# Altium schematic symbol library JLC_PCB_2.SchLib: 147 symbols
Pins are listed as number, name and electrical type; pins without a type are passive.

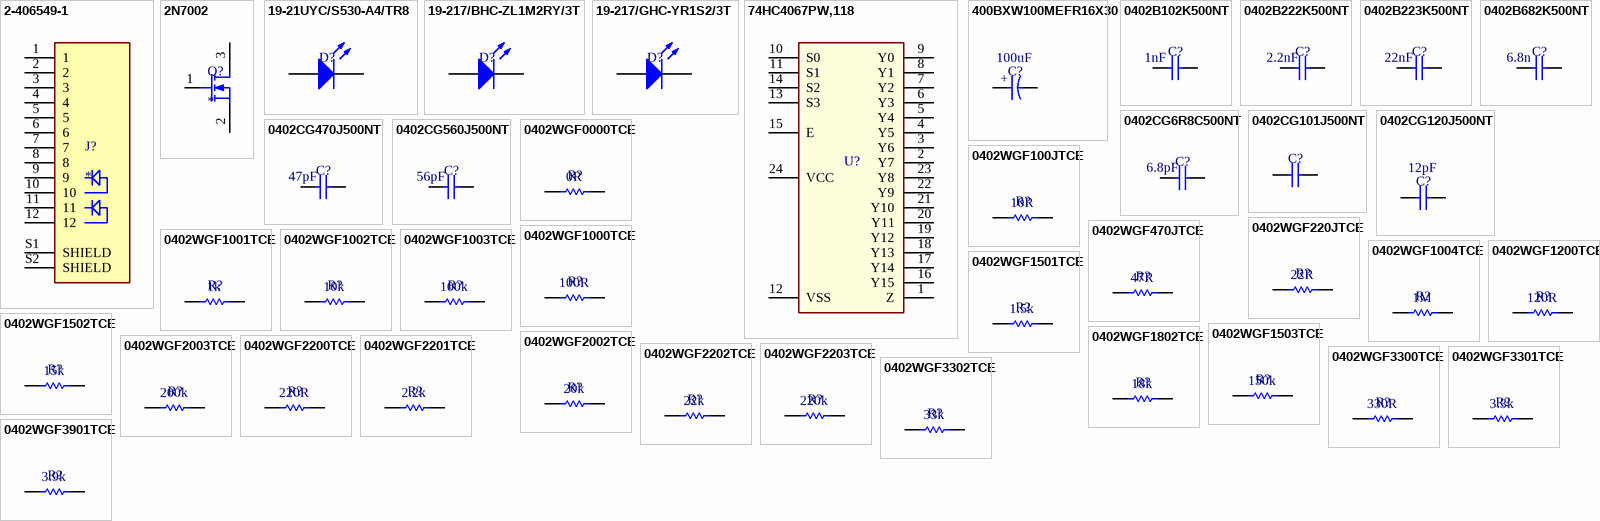
[diagram p0: symbols 2-406549-1 to 0402WGF3901TCE]

## 2-406549-1
designator J?
J - JACK - ETHERNET - Right - THT; LCSC Part #: C125068; JLC Availability: Extended
footprint TE_2-406549-1
pins: 1, 2, 3, 4, 5, 6, 7, 8, 9, 10, 11, 12, S1 SHIELD, S2 SHIELD

## 2N7002
designator Q?
Q - TRANSISTOR - MOSFET (N) - 60V - 200mW; JLC Availability: Basic; LCSC Part #: C8545
footprint TO-236AB (SOT-23-3 Leads; Body 3.1 x 3 mm, inc. leads (LxW max))
pins: 1 G, 2 S, 3 D

## 19-21UYC/S530-A4/TR8
designator D?  (value not drawn)
D - LED - 0603 - Yellow (Sodium); LCSC Part #: C409441; JLC Availability: Extended
footprint D_0603 (Chip Diode; Body 1.6 x 0.8 mm (LxW typ))
pins: 1 K, 2 A

## 19-217/BHC-ZL1M2RY/3T
designator D?  (value not drawn)
D - LED - 0603 - Blue; LCSC Part #: C72041; JLC Availability: Basic
footprint D_0603 (Chip Diode; Body 1.6 x 0.8 mm (LxW typ))
pins: 1 K, 2 A

## 19-217/GHC-YR1S2/3T
designator D?  (value not drawn)
D - LED - 0603 - Green; LCSC Part #: C72043; JLC Availability: Basic
footprint D_0603 (Chip Diode; Body 1.6 x 0.8 mm (LxW typ))
pins: 1 K, 2 A

## 74HC4067PW,118
designator U?
U - IC -16 Port Analog MUX; ComponentLink1Description: Manufacturer URL; ComponentLink1URL: http://www.st.com/web/en/home.html; ComponentLink2Description: Datasheet; ComponentLink2URL: http://www.st.com/st-web-ui/static/active/en/resource/technical/document/datasheet/CD00161566.pdf; ComponentLink3Description: Package Specification; ComponentLink3URL: http://www.st.com/st-web-ui/static/active/en/resource/technical/document/datasheet/DM00058181.pdf; JLC Availability: Extended; LCSC Part #: C179326
footprint TSSOP-24-P0.65MM-W4.4MM (Shrink Small Outline; 24 Leads)
pins: 1 Z, 2 Y7, 3 Y6, 4 Y5, 5 Y4, 6 Y3, 7 Y2, 8 Y1, 9 Y0, 10 S0 "VSS_3", 11 S1, 12 VSS (power), 13 S3, 14 S2, 15 E, 16 Y15, 17 Y14, 18 Y13, 19 Y12, 20 Y11, 21 Y10, 22 Y9, 23 Y8, 24 VCC (power)

## 400BXW100MEFR16X30
designator C?  value 100uF  (hidden comment: *)
C - CAPACITOR - ELECTROLYTIC - 100uF - 400V; WVDC: 400; ESR: 40mOhm; JLC Availability: Extended; LCSC Part #: C441621
footprint C_CAN_TH_7.5MM_LEADS
pins: 1, 2
text: +

## 0402B102K500NT
designator C?  value 1nF  (hidden comment: *)
C - CAPACITOR - MLCC - 1nF - 50V - 0402; WVDC: 50; LCSC Part #: C1523; JLC Availability: Basic
footprint C_0402 (Chip Capacitor; Body 1.0 x 0.5 mm (LxW typ))
pins: 1, 2

## 0402B222K500NT
designator C?  value 2.2nF  (hidden comment: *)
C - CAPACITOR - MLCC - 2.2nF - 50V - 0402; WVDC: 50; LCSC Part #: C1531; JLC Availability: Basic
footprint C_0402 (Chip Capacitor; Body 1.0 x 0.5 mm (LxW typ))
pins: 1, 2

## 0402B223K500NT
designator C?  value 22nF  (hidden comment: *)
C - CAPACITOR - MLCC - 22nF - 50V - 0402; WVDC: 50; LCSC Part #: C1532; JLC Availability: Basic
footprint C_0402 (Chip Capacitor; Body 1.0 x 0.5 mm (LxW typ))
pins: 1, 2

## 0402B682K500NT
designator C?  value 6.8n  (hidden comment: *)
C - CAPACITOR - MLCC - 6.8nF - 50V - 0402; WVDC: 50; LCSC Part #: C1542; JLC Availability: Basic
footprint C_0402 (Chip Capacitor; Body 1.0 x 0.5 mm (LxW typ))
pins: 1, 2

## 0402CG6R8C500NT
designator C?  value 6.8pF  (hidden comment: *)
C - CAPACITOR - MLCC - 6.8pF - 50V - 0402; WVDC: 50; LCSC Part #: C1576; JLC Availability: Basic
footprint C_0402 (Chip Capacitor; Body 1.0 x 0.5 mm (LxW typ))
pins: 1, 2

## 0402CG101J500NT
designator C?  (value not drawn)
C - CAPACITOR - MLCC - 100pF - 50V - 0402; LCSC Part #: C1546; JLC Availability: Extended
footprint C_0402 (Chip Capacitor; Body 1.0 x 0.5 mm (LxW typ))
pins: 1, 2

## 0402CG120J500NT
designator C?  value 12pF  (hidden comment: *)
C - CAPACITOR - MLCC - 12pF - 50V - 0402; WVDC: 50; LCSC Part #: C1547; JLC Availability: Basic
footprint C_0402 (Chip Capacitor; Body 1.0 x 0.5 mm (LxW typ))
pins: 1, 2

## 0402CG470J500NT
designator C?  value 47pF  (hidden comment: *)
C - CAPACITOR - MLCC - 47pF - 50V - 0402; WVDC: 50; LCSC Part #: C1567; JLC Availability: Basic
footprint C_0402 (Chip Capacitor; Body 1.0 x 0.5 mm (LxW typ))
pins: 1, 2

## 0402CG560J500NT
designator C?  value 56pF  (hidden comment: *)
C - CAPACITOR - MLCC - 56pF - 50V -  0402; WVDC: 50; LCSC Part #: C1572; JLC Availability: Basic
footprint C_0402 (Chip Capacitor; Body 1.0 x 0.5 mm (LxW typ))
pins: 1, 2

## 0402WGF0000TCE
designator R?  value 0R  (hidden comment: *)
R - RESISTOR - SMD - 0R - 1% - 0402; LCSC Part #: C17168; JLC Availability: Basic
footprint R_0402 (Body 1.0 x 0.5 mm (LxW typ))
pins: 1, 2

## 0402WGF100JTCE
designator R?  value 10R  (hidden comment: *)
R - RESISTOR - SMD - 10R - 1% - 0402; LCSC Part #: C25077; JLC Availability: Basic
footprint R_0402 (Body 1.0 x 0.5 mm (LxW typ))
pins: 1, 2

## 0402WGF220JTCE
designator R?  value 22R  (hidden comment: *)
R - RESISTOR - SMD - 22R - 1% - 0402; LCSC Part #: C25092; JLC Availability: Basic
footprint R_0402 (Body 1.0 x 0.5 mm (LxW typ))
pins: 1, 2

## 0402WGF470JTCE
designator R?  value 47R  (hidden comment: *)
R - RESISTOR - SMD - 47R - 1% - 0402; LCSC Part #: C25118; JLC Availability: Basic
footprint R_0402 (Body 1.0 x 0.5 mm (LxW typ))
pins: 1, 2

## 0402WGF1000TCE
designator R?  value 100R  (hidden comment: *)
R - RESISTOR - SMD - 100R - 1% - 0402; LCSC Part #: C25076; JLC Availability: Basic
footprint R_0402 (Body 1.0 x 0.5 mm (LxW typ))
pins: 1, 2

## 0402WGF1001TCE
designator R?  value 1k  (hidden comment: *)
R - RESISTOR - SMD - 1k - 1% - 0402; LCSC Part #: C11702; JLC Availability: Basic
footprint R_0402 (Body 1.0 x 0.5 mm (LxW typ))
pins: 1, 2

## 0402WGF1002TCE
designator R?  value 10k  (hidden comment: *)
R - RESISTOR - SMD - 10k - 1% - 0402; LCSC Part #: C25744; JLC Availability: Basic
footprint R_0402 (Body 1.0 x 0.5 mm (LxW typ))
pins: 1, 2

## 0402WGF1003TCE
designator R?  value 100k  (hidden comment: *)
R - RESISTOR - SMD - 100k - 1% -  0402; LCSC Part #: C25741; JLC Availability: Basic
footprint R_0402 (Body 1.0 x 0.5 mm (LxW typ))
pins: 1, 2

## 0402WGF1004TCE
designator R?  value 1M  (hidden comment: *)
R - RESISTOR - SMD - 1M - 1% - 0402; LCSC Part #: C26083; JLC Availability: Basic
footprint R_0402 (Body 1.0 x 0.5 mm (LxW typ))
pins: 1, 2

## 0402WGF1200TCE
designator R?  value 120R  (hidden comment: *)
R - RESISTOR - SMD - 120R - 1% - 0402; LCSC Part #: C25079; JLC Availability: Basic
footprint R_0402 (Body 1.0 x 0.5 mm (LxW typ))
pins: 1, 2

## 0402WGF1501TCE
designator R?  value 1.5k  (hidden comment: *)
R - RESISTOR - SMD - 1.5k - 1% - 0402; LCSC Part #: C25867; JLC Availability: Basic
footprint R_0402 (Body 1.0 x 0.5 mm (LxW typ))
pins: 1, 2

## 0402WGF1502TCE
designator R?  value 15k  (hidden comment: *)
R - RESISTOR - SMD - 15k - 1% - 0402; LCSC Part #: C25756; JLC Availability: Basic
footprint R_0402 (Body 1.0 x 0.5 mm (LxW typ))
pins: 1, 2

## 0402WGF1503TCE
designator R?  value 150k  (hidden comment: *)
R - RESISTOR - SMD - 150k - 1% - 0402; LCSC Part #: C25755; JLC Availability: Basic
footprint R_0402 (Body 1.0 x 0.5 mm (LxW typ))
pins: 1, 2

## 0402WGF1802TCE
designator R?  value 18k  (hidden comment: *)
R - RESISTOR - SMD - 18k - 1% - 0402; LCSC Part #: C25762; JLC Availability: Basic
footprint R_0402 (Body 1.0 x 0.5 mm (LxW typ))
pins: 1, 2

## 0402WGF2002TCE
designator R?  value 20k  (hidden comment: *)
R - RESISTOR - SMD - 20k - 1% - 0402; LCSC Part #: C25765; JLC Availability: Basic
footprint R_0402 (Body 1.0 x 0.5 mm (LxW typ))
pins: 1, 2

## 0402WGF2003TCE
designator R?  value 200k  (hidden comment: *)
R - RESISTOR - SMD - 200k - 1% - 0402; LCSC Part #: C25764; JLC Availability: Basic
footprint R_0402 (Body 1.0 x 0.5 mm (LxW typ))
pins: 1, 2

## 0402WGF2200TCE
designator R?  value 220R  (hidden comment: *)
R - RESISTOR - SMD - 220R - 1% - 0402; LCSC Part #: C25091; JLC Availability: Basic
footprint R_0402 (Body 1.0 x 0.5 mm (LxW typ))
pins: 1, 2

## 0402WGF2201TCE
designator R?  value 2.2k  (hidden comment: *)
R - RESISTOR - SMD - 2.2k - 1% - 0402; LCSC Part #: C25879; JLC Availability: Basic
footprint R_0402 (Body 1.0 x 0.5 mm (LxW typ))
pins: 1, 2

## 0402WGF2202TCE
designator R?  value 22k  (hidden comment: *)
R - RESISTOR - SMD - 22k - 1% - 0402; LCSC Part #: C25768; JLC Availability: Basic
footprint R_0402 (Body 1.0 x 0.5 mm (LxW typ))
pins: 1, 2

## 0402WGF2203TCE
designator R?  value 220k  (hidden comment: *)
R - RESISTOR - SMD - 220k - 1% - 0402; LCSC Part #: C25767; JLC Availability: Basic
footprint R_0402 (Body 1.0 x 0.5 mm (LxW typ))
pins: 1, 2

## 0402WGF3300TCE
designator R?  value 330R  (hidden comment: *)
R - RESISTOR - SMD - 330R - 1% - 0402; LCSC Part #: C25104; JLC Availability: Basic
footprint R_0402 (Body 1.0 x 0.5 mm (LxW typ))
pins: 1, 2

## 0402WGF3301TCE
designator R?  value 3.3k  (hidden comment: *)
R - RESISTOR - SMD - 3.3k - 1% - 0402; LCSC Part #: C25890; JLC Availability: Basic
footprint R_0402 (Body 1.0 x 0.5 mm (LxW typ))
pins: 1, 2

## 0402WGF3302TCE
designator R?  value 33k  (hidden comment: *)
R - RESISTOR - SMD - 33k - 1% - 0402; LCSC Part #: C25779; JLC Availability: Basic
footprint R_0402 (Body 1.0 x 0.5 mm (LxW typ))
pins: 1, 2

## 0402WGF3901TCE
designator R?  value 3.9k  (hidden comment: *)
R - RESISTOR - SMD - 3.9k - 1% - 0402; LCSC Part #: C51721; JLC Availability: Basic
footprint R_0402 (Body 1.0 x 0.5 mm (LxW typ))
pins: 1, 2

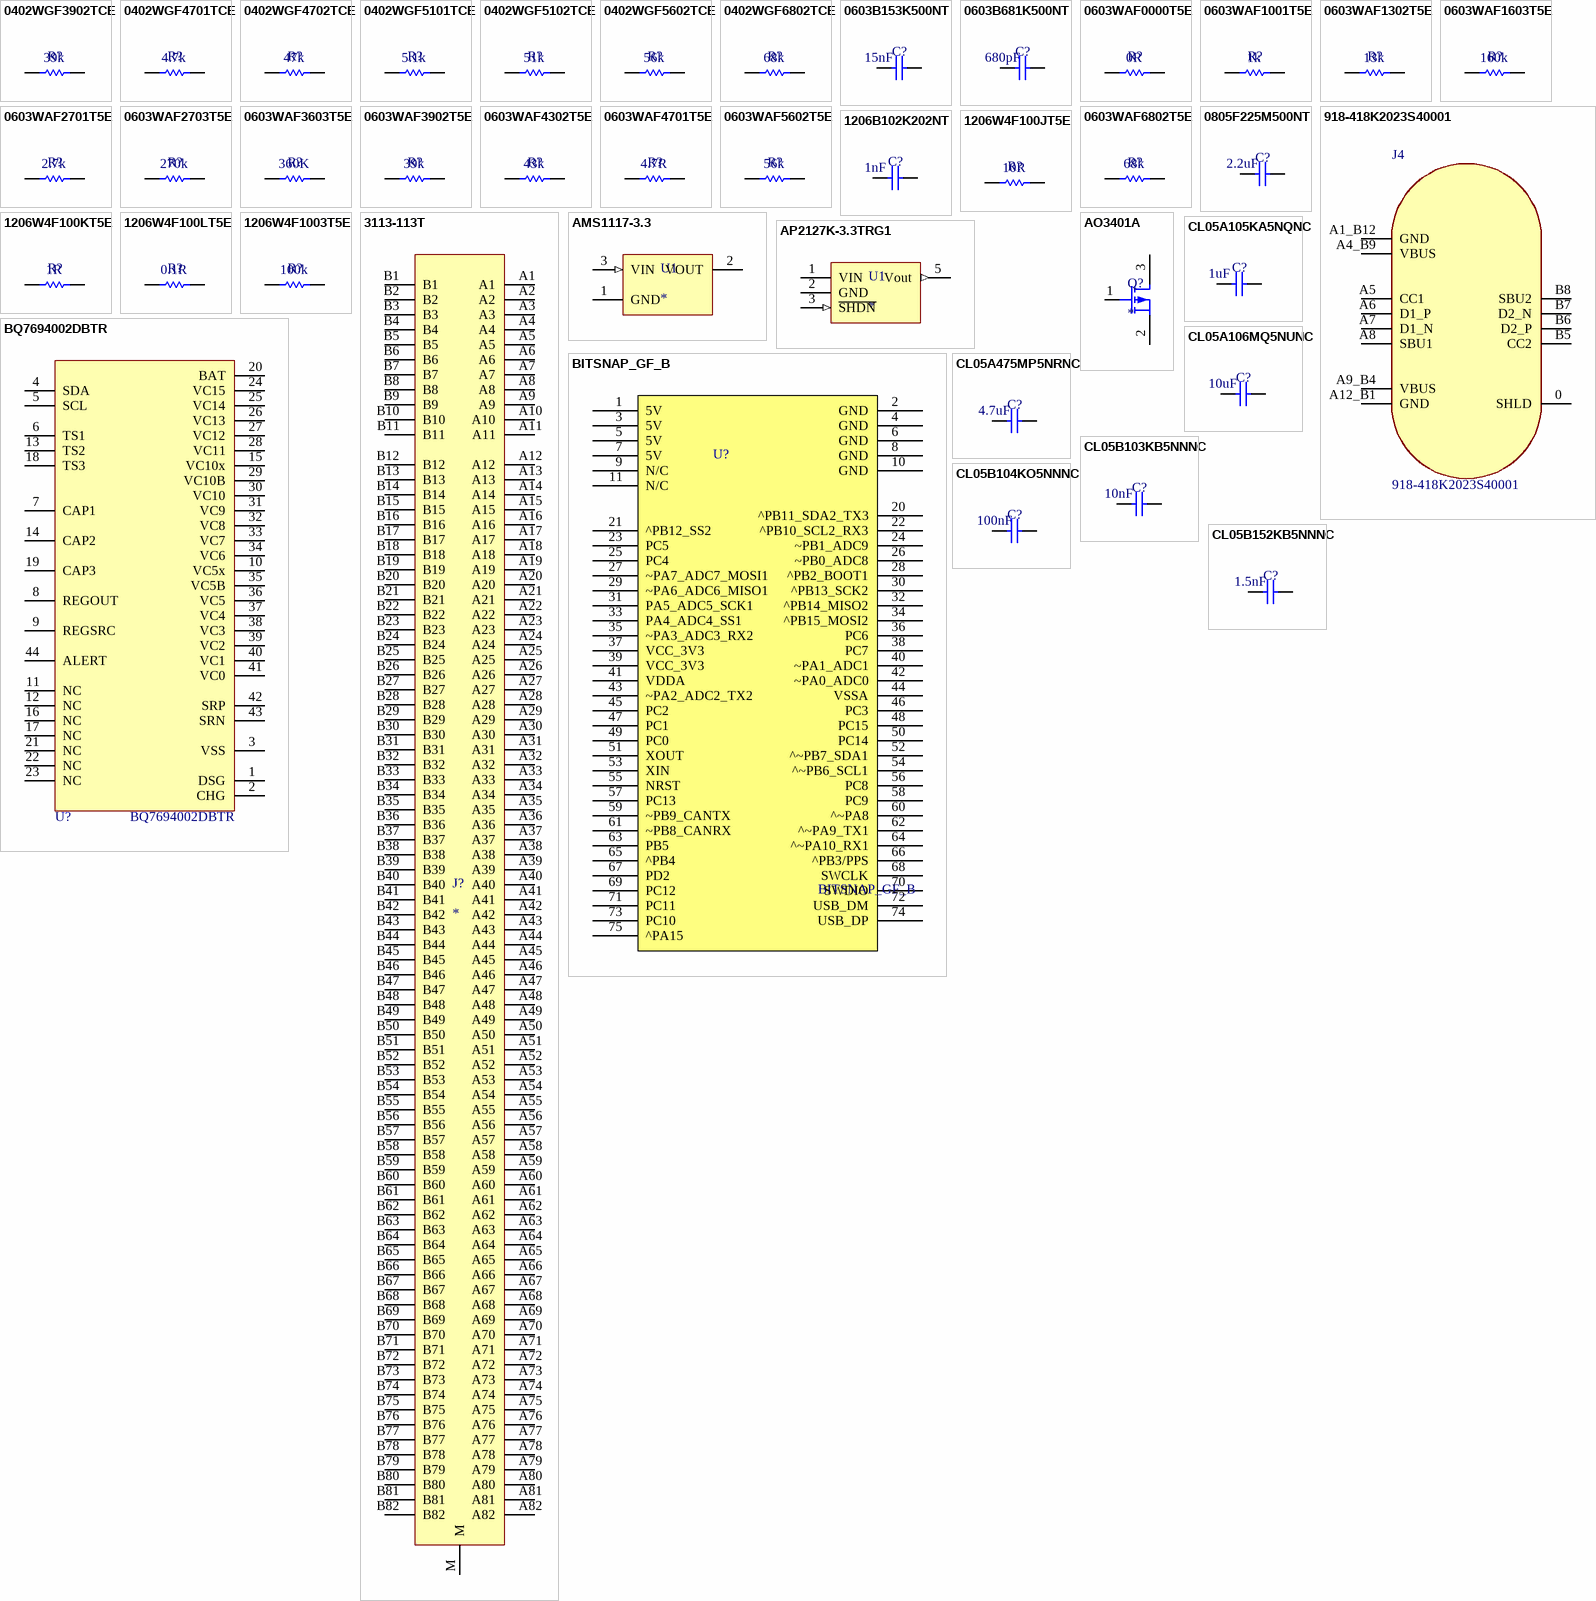
[diagram p1: symbols 0402WGF3902TCE to CL05B152KB5NNNC]

## 0402WGF3902TCE
designator R?  value 39k  (hidden comment: *)
R - RESISTOR - SMD - 39k - 1% - 0402; LCSC Part #: C25783; JLC Availability: Basic
footprint R_0402 (Body 1.0 x 0.5 mm (LxW typ))
pins: 1, 2

## 0402WGF4701TCE
designator R?  value 4.7k  (hidden comment: *)
R - RESISTOR - SMD - 4.7k - 1% - 0402; LCSC Part #: C25900; JLC Availability: Basic
footprint R_0402 (Body 1.0 x 0.5 mm (LxW typ))
pins: 1, 2

## 0402WGF4702TCE
designator R?  value 47k  (hidden comment: *)
R - RESISTOR - SMD - 47k - 1% - 0402; LCSC Part #: C25792; JLC Availability: Basic
footprint R_0402 (Body 1.0 x 0.5 mm (LxW typ))
pins: 1, 2

## 0402WGF5101TCE
designator R?  value 5.1k  (hidden comment: *)
R - RESISTOR - SMD - 5.1k - 1% - 0402; LCSC Part #: C25905; JLC Availability: Basic
footprint R_0402 (Body 1.0 x 0.5 mm (LxW typ))
pins: 1, 2

## 0402WGF5102TCE
designator R?  value 51k  (hidden comment: *)
R - RESISTOR - SMD - 51k - 1% - 0402; LCSC Part #: C25794; JLC Availability: Basic
footprint R_0402 (Body 1.0 x 0.5 mm (LxW typ))
pins: 1, 2

## 0402WGF5602TCE
designator R?  value 56k  (hidden comment: *)
R - RESISTOR - SMD - 56k - 1% - 0402; LCSC Part #: C25796; JLC Availability: Basic
footprint R_0402 (Body 1.0 x 0.5 mm (LxW typ))
pins: 1, 2

## 0402WGF6802TCE
designator R?  value 68k  (hidden comment: *)
R - RESISTOR - SMD - 68k - 1% - 0402; LCSC Part #: C36871; JLC Availability: Basic
footprint R_0402 (Body 1.0 x 0.5 mm (LxW typ))
pins: 1, 2

## 0603B153K500NT
designator C?  value 15nF  (hidden comment: *)
C - CAPACITOR - MLCC - 15nF - 50V - 0603; WVDC: 50; LCSC Part #: C1596; JLC Availability: Basic
footprint C_0805 (Chip Capacitor; Body 2.0 x 1.2 mm (LxW typ))
pins: 1, 2

## 0603B681K500NT
designator C?  value 680pF  (hidden comment: *)
C - CAPACITOR - MLCC - 680pF - 50V -  0603; WVDC: 50; LCSC Part #: C1630; JLC Availability: Basic
footprint C_0603 (Chip Capacitor; Body 1.6 x 0.8 mm (LxW typ))
pins: 1, 2

## 0603WAF0000T5E
designator R?  value 0R  (hidden comment: *)
R - RESISTOR - SMD - 0R - 1% - 0603; LCSC Part #: C21189; JLC Availability: Basic
footprint R_0603 (Body 1.6 x 0.8 mm (LxW typ))
pins: 1, 2

## 0603WAF1001T5E
designator R?  value 1k  (hidden comment: *)
R - RESISTOR - SMD - 1k - 1% - 0603; LCSC Part #: C21190; JLC Availability: Basic
footprint R_0603 (Body 1.6 x 0.8 mm (LxW typ))
pins: 1, 2

## 0603WAF1302T5E
designator R?  value 13k  (hidden comment: *)
R - RESISTOR - SMD - 13k - 1% - 0603; LCSC Part #: C22797; JLC Availability: Basic
footprint R_0603 (Body 1.6 x 0.8 mm (LxW typ))
pins: 1, 2

## 0603WAF1603T5E
designator R?  value 160k  (hidden comment: *)
R - RESISTOR - SMD - 160k - 1% - 0603; LCSC Part #: C22813; JLC Availability: Basic
footprint R_0603 (Body 1.6 x 0.8 mm (LxW typ))
pins: 1, 2

## 0603WAF2701T5E
designator R?  value 2.7k  (hidden comment: *)
R - RESISTOR - SMD - 2.7k - 1% - 0603; LCSC Part #: C13167; JLC Availability: Basic
footprint R_0603 (Body 1.6 x 0.8 mm (LxW typ))
pins: 1, 2

## 0603WAF2703T5E
designator R?  value 270k  (hidden comment: *)
R - RESISTOR - SMD - 270k - 1% - 0603; LCSC Part #: C22965; JLC Availability: Basic
footprint R_0603 (Body 1.6 x 0.8 mm (LxW typ))
pins: 1, 2

## 0603WAF3603T5E
designator R?  value 360K  (hidden comment: *)
R - RESISTOR - SMD - 360k - 1% - 0603; LCSC Part #: C23146; JLC Availability: Basic
footprint R_0603 (Body 1.6 x 0.8 mm (LxW typ))
pins: 1, 2

## 0603WAF3902T5E
designator R?  value 39k  (hidden comment: *)
R - RESISTOR - SMD - 39k - 1% - 0603; LCSC Part #: C23153; JLC Availability: Basic
footprint R_0603 (Body 1.6 x 0.8 mm (LxW typ))
pins: 1, 2

## 0603WAF4302T5E
designator R?  value 43k  (hidden comment: *)
R - RESISTOR - SMD - 43k - 1% - 0603; LCSC Part #: C23172; JLC Availability: Basic
footprint R_0603 (Body 1.6 x 0.8 mm (LxW typ))
pins: 1, 2

## 0603WAF4701T5E
designator R?  value 4.7R  (hidden comment: *)
R - RESISTOR - SMD - 4.7R - 1% - 0603; LCSC Part #: C23162; JLC Availability: Basic
footprint R_0603 (Body 1.6 x 0.8 mm (LxW typ))
pins: 1, 2

## 0603WAF5602T5E
designator R?  value 56k  (hidden comment: *)
R - RESISTOR - SMD - 56k - 1% - 0603; LCSC Part #: C23206; JLC Availability: Basic
footprint R_0603 (Body 1.6 x 0.8 mm (LxW typ))
pins: 1, 2

## 0603WAF6802T5E
designator R?  value 68k  (hidden comment: *)
R - RESISTOR - SMD - 68k - 1% - 0603; LCSC Part #: C23231; JLC Availability: Basic
footprint R_0603 (Body 1.6 x 0.8 mm (LxW typ))
pins: 1, 2

## 0805F225M500NT
designator C?  value 2.2uF  (hidden comment: *)
C - CAPACITOR - MLCC - 2.2uF - 50V - 0805 - Y5V; WVDC: 50; LCSC Part #: C49217; JLC Availability: Basic
footprint C_0805 (Chip Capacitor; Body 2.0 x 1.2 mm (LxW typ))
pins: 1, 2

## 918-418K2023S40001
designator J4
J - JACK - USB - Type C - Recepticle - SMT - 90°; JLC Availability: LCSC; LCSC Part #: C167321
footprint DX07S016JA1R1500 (USB-C (USB TYPE-C) USB 2.0 Receptacle Connector 24 (16+8 Dummy) Position Surface Mount, Right Angle)
pins: 0 SHLD, A1_B12 GND, A4_B9 VBUS (power), A5 CC1, A6 D1_P, A7 D1_N, A8 SBU1, A9_B4 VBUS (power), A12_B1 GND, B5 CC2, B6 D2_P, B7 D2_N, B8 SBU2

## 1206B102K202NT
designator C?  value 1nF  (hidden comment: *)
C - CAPACITOR - MLCC - 1nF - 2000V - 1206 - X7R; WVDC: 2000; LCSC Part #: C9196; JLC Availability: Basic
footprint C_1206 (Chip Capacitor; Body 3.2 x 1.6 mm (LxW typ))
pins: 1, 2

## 1206W4F100JT5E
designator R?  value 10R  (hidden comment: *)
R - RESISTOR - SMD - 10R - 1% - 1206; LCSC Part #: C17903; JLC Availability: Basic
footprint R_1206 (Body 3.2 x 1.6 mm (LxW typ))
pins: 1, 2

## 1206W4F100KT5E
designator R?  value 1R  (hidden comment: *)
R - RESISTOR - SMD - 1R - 1% - 1206; LCSC Part #: C17928; JLC Availability: Basic
footprint R_1206 (Body 3.2 x 1.6 mm (LxW typ))
pins: 1, 2

## 1206W4F100LT5E
designator R?  value 0.1R  (hidden comment: *)
R - RESISTOR - SMD - 0.1R - 1% - 1206; LCSC Part #: C25334; JLC Availability: Basic
footprint R_1206 (Body 3.2 x 1.6 mm (LxW typ))
pins: 1, 2

## 1206W4F1003T5E
designator R?  value 100k  (hidden comment: *)
R - RESISTOR - SMD - 100k - 1% - 1206; LCSC Part #: C17900; JLC Availability: Basic
footprint R_1206 (Body 3.2 x 1.6 mm (LxW typ))
pins: 1, 2

## 3113-113T
designator J?
J - JACK - PCI-E 1mm 164p SMD Card Edge Connectors; JLC Availability: Extended; LCSC Part No: C404104
footprint 3113-113T (PCI & PCI Express GEN3.0 , 8GT/S,BTB,SMT,164P(X16),1mm Centerline,G/F,BLK)
pins: A1, A2, A3, A4, A5, A6, A7, A8, A9, A10, A11, A12, A13, A14, A15, A16, A17, A18, A19, A20, A21, A22, A23, A24, A25, A26, A27, A28, A29, A30, A31, A32, A33, A34, A35, A36, A37, A38, A39, A40, A41, A42, A43, A44, A45, A46, A47, A48, A49, A50, A51, A52, A53, A54, A55, A56, A57, A58, A59, A60, A61, A62, A63, A64, A65, A66, A67, A68, A69, A70, A71, A72, A73, A74, A75, A76, A77, A78, A79, A80, A81, A82, B1, B2, B3, B4, B5, B6, B7, B8, B9, B10, B11, B12, B13, B14, B15, B16, B17, B18, B19, B20, B21, B22, B23, B24, B25, B26, B27, B28, B29, B30, B31, B32, B33, B34, B35, B36, B37, B38, B39, B40, B41, B42, B43, B44, B45, B46, B47, B48, B49, B50, B51, B52, B53, B54, B55, B56, B57, B58, B59, B60, B61, B62, B63, B64, B65, B66, B67, B68, B69, B70, B71, B72, B73, B74, B75, B76, B77, B78, B79, B80, B81, B82, M

## AMS1117-3.3
designator U1
U - IC - LDO - 3.3V - 800mA; VOut: 3.3; LCSC Part #: C6186; JLC Availability: Basic
footprint TO-261AA (SOT223, 4-Leads, Body 6.5x3.5mm, Pitch 2.3mm, Lead Span 7mm, IPC High Density)
pins: 1 GND (power), 2 VOUT, 3 VIN (in)

## AO3401A
designator Q?
Q - TRANSISTOR - MOSFET (P) - 30V - 1.4A - 0.44 Ohm; JLC Availability: Basic; LCSC Part #: C15127
footprint TO-236AB (SOT-23-3 Leads; Body 3.1 x 3 mm, inc. leads (LxW max))
pins: 1 G, 2 S, 3 D

## AP2127K-3.3TRG1
designator U1
U - IC - LDO 3.3V 300mA; VOut: 3.3; LCSC Part #: C156285; JLC Availability: Extended
footprint SOT-23-5 (SOT-23-5 Leads; Body 3.1 x 3 mm, inc. leads (LxW max))
pins: 1 VIN (power), 2 GND, 3 ~{SHDN} (in), 5 Vout (out)

## BITSNAP_GF_B
designator U?
U - IC - Bitsnap CPU, NGFF B Key; Manufacturer: Kyocera; Manufacturer P/N: 245863050024829
footprint BITSNAP_CPU_NGFF_B (Bitsnap, NGFF B KEY, TE 2199119-3)
footprint BITSNAP_CPU_NGFF_B_EMBEDDED (Bitsnap, NGFF B KEY, Embedded Board Array)
pins: 1 5V, 2 GND, 3 5V, 4 GND, 5 5V, 6 GND, 7 5V, 8 GND, 9 N/C, 10 GND, 11 N/C, 20 ^PB11_SDA2_TX3, 21 ^PB12_SS2, 22 ^PB10_SCL2_RX3, 23 PC5, 24 ~PB1_ADC9, 25 PC4, 26 ~PB0_ADC8, 27 ~PA7_ADC7_MOSI1, 28 ^PB2_BOOT1, 29 ~PA6_ADC6_MISO1, 30 ^PB13_SCK2, 31 PA5_ADC5_SCK1, 32 ^PB14_MISO2, 33 PA4_ADC4_SS1, 34 ^PB15_MOSI2, 35 ~PA3_ADC3_RX2, 36 PC6, 37 VCC_3V3, 38 PC7, 39 VCC_3V3, 40 ~PA1_ADC1, 41 VDDA, 42 ~PA0_ADC0, 43 ~PA2_ADC2_TX2, 44 VSSA, 45 PC2, 46 PC3, 47 PC1, 48 PC15, 49 PC0, 50 PC14, 51 XOUT, 52 ^~PB7_SDA1, 53 XIN, 54 ^~PB6_SCL1, 55 NRST, 56 PC8, 57 PC13, 58 PC9, 59 ~PB9_CANTX, 60 ^~PA8, 61 ~PB8_CANRX, 62 ^~PA9_TX1, 63 PB5, 64 ^~PA10_RX1, 65 ^PB4, 66 ^PB3/PPS, 67 PD2, 68 SWCLK, 69 PC12, 70 SWDIO, 71 PC11, 72 USB_DM, 73 PC10, 74 USB_DP, 75 ^PA15

## BQ7694002DBTR
designator U?
9 to 15-series cell li-ion and li-phosphate battery monitor (bq76940 family)
footprint TSSOP-44-P0.5MM-W4MM (TSSOP, 44-Leads, Body 10.55x4.00mm, Pitch 0.50mm, IPC Medium Density)
pins: 1 DSG, 2 CHG, 3 VSS, 4 SDA, 5 SCL, 6 TS1, 7 CAP1, 8 REGOUT, 9 REGSRC, 10 VC5x, 11 NC, 12 NC, 13 TS2, 14 CAP2, 15 VC10x, 16 NC, 17 NC, 18 TS3, 19 CAP3, 20 BAT, 21 NC, 22 NC, 23 NC, 24 VC15, 25 VC14, 26 VC13, 27 VC12, 28 VC11, 29 VC10B, 30 VC10, 31 VC9, 32 VC8, 33 VC7, 34 VC6, 35 VC5B, 36 VC5, 37 VC4, 38 VC3, 39 VC2, 40 VC1, 41 VC0, 42 SRP, 43 SRN, 44 ALERT

## CL05A105KA5NQNC
designator C?  value 1uF  (hidden comment: *)
C - CAPACITOR - MLCC - 1uF - 25V - 0402; WVDC: 16; LCSC Part #: C52923; JLC Availability: Basic
footprint C_0402 (Chip Capacitor; Body 1.0 x 0.5 mm (LxW typ))
pins: 1, 2

## CL05A106MQ5NUNC
designator C?  value 10uF  (hidden comment: *)
C - CAPACITOR - MLCC - 10uF - 6.3V - 0402; WVDC: 6.3; LCSC Part #: C15525; JLC Availability: Basic
footprint C_0402 (Chip Capacitor; Body 1.0 x 0.5 mm (LxW typ))
pins: 1, 2

## CL05A475MP5NRNC
designator C?  value 4.7uF  (hidden comment: *)
C - CAPACITOR - MLCC - 4.7uF - 10V - 0402; WVDC: 10; LCSC Part #: C23733; JLC Availability: Basic
footprint C_0402 (Chip Capacitor; Body 1.0 x 0.5 mm (LxW typ))
pins: 1, 2

## CL05B103KB5NNNC
designator C?  value 10nF  (hidden comment: *)
C - CAPACITOR - MLCC - 10nF - 50V - 0402; WVDC: 50; LCSC Part #: C15195; JLC Availability: Basic
footprint C_0402 (Chip Capacitor; Body 1.0 x 0.5 mm (LxW typ))
pins: 1, 2

## CL05B104KO5NNNC
designator C?  value 100nF  (hidden comment: *)
C - CAPACITOR - MLCC - 100nF - 16V - 0402; WVDC: 16; LCSC Part #: C1525; JLC Availability: Basic
footprint C_0402 (Chip Capacitor; Body 1.0 x 0.5 mm (LxW typ))
pins: 1, 2

## CL05B152KB5NNNC
designator C?  value 1.5nF  (hidden comment: *)
C - CAPACITOR - MLCC - 1.5nF - 50V - 0402; WVDC: 50; LCSC Part #: C23967; JLC Availability: Basic
footprint C_0402 (Chip Capacitor; Body 1.0 x 0.5 mm (LxW typ))
pins: 1, 2

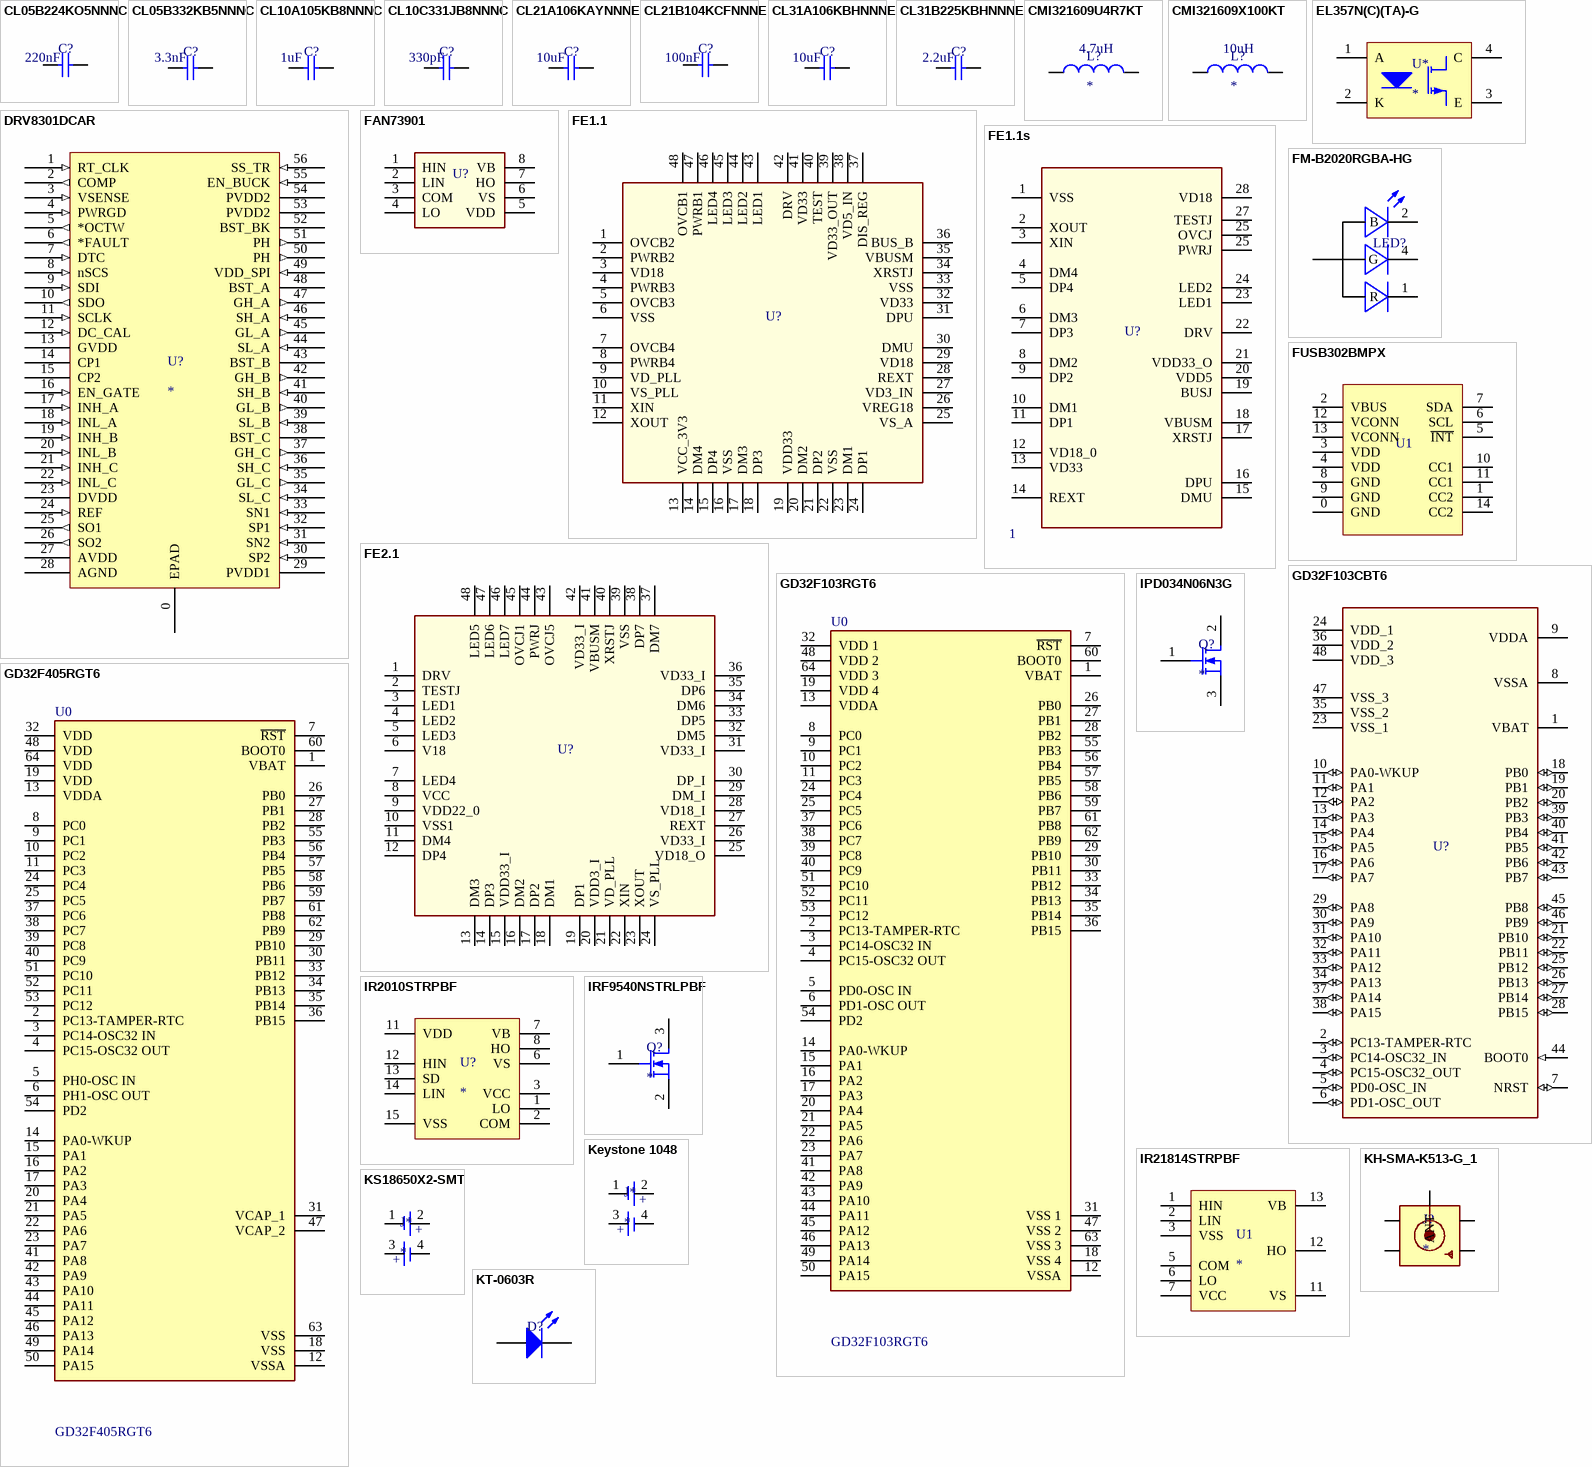
[diagram p2: symbols CL05B224KO5NNNC to KT-0603R]

## CL05B224KO5NNNC
designator C?  value 220nF  (hidden comment: *)
C - CAPACITOR - MLCC - 220nF - 16V - 0402; WVDC: 16; LCSC Part #: C16772; JLC Availability: Basic
footprint C_0402 (Chip Capacitor; Body 1.0 x 0.5 mm (LxW typ))
pins: 1, 2

## CL05B332KB5NNNC
designator C?  value 3.3nF  (hidden comment: *)
C - CAPACITOR - MLCC - 3.3nF - 50V - 0402; WVDC: 50; LCSC Part #: C26404; JLC Availability: Basic
footprint C_0402 (Chip Capacitor; Body 1.0 x 0.5 mm (LxW typ))
pins: 1, 2

## CL10A105KB8NNNC
designator C?  value 1uF  (hidden comment: *)
C - CAPACITOR - MLCC - 1uF - 50V - 0603; WVDC: 50; LCSC Part #: C15849; JLC Availability: Basic
footprint C_0603 (Chip Capacitor; Body 1.6 x 0.8 mm (LxW typ))
pins: 1, 2

## CL10C331JB8NNNC
designator C?  value 330pF  (hidden comment: *)
C - CAPACITOR - MLCC - 330pF - 50V - 0603; WVDC: 50; LCSC Part #: C1664; JLC Availability: Basic
footprint C_0603 (Chip Capacitor; Body 1.6 x 0.8 mm (LxW typ))
pins: 1, 2

## CL21A106KAYNNNE
designator C?  value 10uF  (hidden comment: *)
C - CAPACITOR - MLCC - 10uF - 25V - 0805; WVDC: 25; LCSC Part #: C15850; Availability: Basic
footprint C_0805 (Chip Capacitor; Body 2.0 x 1.2 mm (LxW typ))
pins: 1, 2

## CL21B104KCFNNNE
designator C?  value 100nF  (hidden comment: *)
C - CAPACITOR - MLCC - 100nF - 100V - 0805; WVDC: 100; LCSC Part #: C28233; JLC Availability: Basic
footprint C_0805 (Chip Capacitor; Body 2.0 x 1.2 mm (LxW typ))
pins: 1, 2

## CL31A106KBHNNNE
designator C?  value 10uF  (hidden comment: *)
C - CAPACITOR - MLCC - 10uF - 50V - 1206; WVDC: 6.3; LCSC Part #: C13585; JLC Availability: Basic
footprint C_1206 (Chip Capacitor; Body 3.2 x 1.6 mm (LxW typ))
pins: 1, 2

## CL31B225KBHNNNE
designator C?  value 2.2uF  (hidden comment: *)
C - CAPACITOR - MLCC - 2.2uF - 50V - 1206 - X7R; WVDC: 50; LCSC Part #: C50254; JLC Availability: Basic
footprint C_1206 (Chip Capacitor; Body 3.2 x 1.6 mm (LxW typ))
pins: 1, 2

## CMI321609U4R7KT
designator L?  value 4.7uH
L - INDUCTOR - 4.7uH - 25mA - 1206; Isat: 25mA; LCSC Part #: C1049; JLC Availability: Basic
footprint L_1206 (Chip Inductor, Body 3.2 x 1.6 mm (LxW typ))
pins: 1, 2

## CMI321609X100KT
designator L?  value 10uH
L - INDUCTOR - 10uH - 25mA - 1206; Isat: 25mA; LCSC Part #: C1051; JLC Availability: Basic
footprint L_1206 (Chip Inductor, Body 3.2 x 1.6 mm (LxW typ))
pins: 1, 2

## DRV8301DCAR
designator U?
U - IC - 60V Three Phase Gate Driver With Dual Current Shunt Amplifiers and  Buck Regulator; JLC Availability: Extended; LCSC Part #: C98969
footprint HTSSOP-56-EP (DRV830X)
pins: 0 EPAD, 1 RT_CLK (in), 2 COMP (out), 3 VSENSE (in), 4 PWRGD (in), 5 *OCTW (out), 6 *FAULT (out), 7 DTC (in), 8 nSCS (in), 9 SDI (in), 10 SDO (out), 11 SCLK (in), 12 DC_CAL (in), 13 GVDD (power), 14 CP1 (power), 15 CP2 (power), 16 EN_GATE (in), 17 INH_A (in), 18 INL_A (in), 19 INH_B (in), 20 INL_B (in), 21 INH_C (in), 22 INL_C (in), 23 DVDD (power), 24 REF (in), 25 SO1 (out), 26 SO2 (out), 27 AVDD (power), 28 AGND (power), 29 PVDD1 (power), 30 SP2 (in), 31 SN2 (in), 32 SP1 (in), 33 SN1 (in), 34 SL_C (in), 35 GL_C (out), 36 SH_C (in), 37 GH_C (out), 38 BST_C (power), 39 SL_B (in), 40 GL_B (out), 41 SH_B (in), 42 GH_B (out), 43 BST_B (power), 44 SL_A (in), 45 GL_A (out), 46 SH_A (in), 47 GH_A (out), 48 BST_A (power), 49 VDD_SPI (in), 50 PH (out), 51 PH (out), 52 BST_BK (power), 53 PVDD2 (power), 54 PVDD2 (power), 55 EN_BUCK (in), 56 SS_TR (in)

## EL357N(C)(TA)-G
designator U*
U - IC - OptoIsolator; JLC Availability: Basic; LCSC Part Number: C29981
footprint SOP-4 (Optoisolator)
pins: 1 A, 2 K, 3 E, 4 C

## FAN73901
designator U?
U - IC - GATE DRIVER - Half Bridge; ComponentLink1Description: Manufacturer URL; ComponentLink1URL: http://www.st.com/web/en/home.html; ComponentLink2Description: Datasheet; ComponentLink2URL: http://www.st.com/st-web-ui/static/active/en/resource/technical/document/datasheet/CD00161566.pdf; ComponentLink3Description: Package Specification; ComponentLink3URL: http://www.st.com/st-web-ui/static/active/en/resource/technical/document/datasheet/DM00058181.pdf; JLC Availability: Extended; LCSC Part #: C76233
footprint SOIC-8-P1.27-W3.5
pins: 1 HIN "VSS", 2 LIN "VSS_3", 3 COM, 4 LO, 5 VDD, 6 VS, 7 HO, 8 VB

## FE1.1
designator U?
U - IC - USB 2.0 Hub - 4 Port - 6TT; Transaction Translators: 6; ComponentLink1Description: Manufacturer URL; ComponentLink1URL: http://www.st.com/web/en/home.html; ComponentLink2Description: Datasheet; ComponentLink2URL: http://www.st.com/st-web-ui/static/active/en/resource/technical/document/datasheet/CD00161566.pdf; ComponentLink3Description: Package Specification; ComponentLink3URL: http://www.st.com/st-web-ui/static/active/en/resource/technical/document/datasheet/DM00058181.pdf; JLC Availability: Extended; LCSC Part #: C28958
footprint QFP-48-P0.5MM (QFP; 48 Leads; Body 7 x 7 mm; Pitch 0.5 mm)
pins: 1 OVCB2, 2 PWRB2, 3 VD18, 4 PWRB3, 5 OVCB3, 6 VSS "VSS_1", 7 OVCB4 "VSS_1", 8 PWRB4 "VSS_1", 9 VD_PLL "VSS_1", 10 VS_PLL "VSS_1", 11 XIN "VSS_1", 12 XOUT "VSS_1", 13 VCC_3V3 "VSS_1", 14 DM4 "VSS_1", 15 DP4 "VSS_1", 16 VSS "VSS_1", 17 DM3, 18 DP3, 19 VDD33, 20 DM2, 21 DP2, 22 VSS "VSS_1", 23 DM1 "VSS_1", 24 DP1 "VSS_1", 25 VS_A "VSS_1", 26 VREG18 "VSS_1", 27 VD3_IN "VSS_1", 28 REXT "VSS_1", 29 VD18, 30 DMU, 31 DPU, 32 VD33, 33 VSS, 34 XRSTJ "VSS_1", 35 VBUSM "VSS_1", 36 BUS_B "VSS_1", 37 DIS_REG "VSS_1", 38 VD5_IN "VSS_1", 39 VD33_OUT "VSS_1", 40 TEST "VSS_1", 41 VD33, 42 DRV, 43 LED1, 44 LED2, 45 LED3, 46 LED4 "VSS_1", 47 PWRB1 "VSS_1", 48 OVCB1 "VSS_1"

## FE1.1s
designator U?  Transaction Translators: 1
U - IC - USB 2.0 Hub - 4 Port - 1TT; ComponentLink1Description: Manufacturer URL; ComponentLink1URL: http://www.st.com/web/en/home.html; ComponentLink2Description: Datasheet; ComponentLink2URL: http://www.st.com/st-web-ui/static/active/en/resource/technical/document/datasheet/CD00161566.pdf; ComponentLink3Description: Package Specification; ComponentLink3URL: http://www.st.com/st-web-ui/static/active/en/resource/technical/document/datasheet/DM00058181.pdf; JLC Availability: Extended; LCSC Part #: C9359
footprint TSSOP-28-P0.65MM-W3.9MM (Shrink Small Outline; 28 Leads)
pins: 1 VSS (power), 2 XOUT "VSS_3", 3 XIN, 4 DM4, 5 DP4, 6 DM3, 7 DP3, 8 DM2, 9 DP2, 10 DM1, 11 DP1, 12 VD18_0, 13 VD33, 14 REXT, 15 DMU, 16 DPU, 17 XRSTJ, 18 VBUSM, 19 BUSJ, 20 VDD5, 21 VDD33_O, 22 DRV, 23 LED1, 24 LED2, 25 PWRJ, 25 OVCJ, 27 TESTJ, 28 VD18

## FE2.1
designator U?
IC - USB 2.0 Hub, 7 Port, 6TT; Transaction Translators: 6; ComponentLink1Description: Manufacturer URL; ComponentLink1URL: http://www.st.com/web/en/home.html; ComponentLink2Description: Datasheet; ComponentLink2URL: http://www.st.com/st-web-ui/static/active/en/resource/technical/document/datasheet/CD00161566.pdf; ComponentLink3Description: Package Specification; ComponentLink3URL: http://www.st.com/st-web-ui/static/active/en/resource/technical/document/datasheet/DM00058181.pdf; JLC Availability: Extended; LCSC Part #: C28958
footprint QFP-48 (QFP; 48 Leads; Body 7 x 7 mm; Pitch 0.5 mm)
pins: 1 DRV, 2 TESTJ, 3 LED1, 4 LED2, 5 LED3, 6 V18 "VSS_1", 7 LED4 "VSS_1", 8 VCC "VSS_1", 9 VDD22_0 "VSS_1", 10 VSS1 "VSS_1", 11 DM4 "VSS_1", 12 DP4 "VSS_1", 13 DM3 "VSS_1", 14 DP3 "VSS_1", 15 VDD33_I "VSS_1", 16 DM2 "VSS_1", 17 DP2, 18 DM1, 19 DP1, 20 VDD3_I, 21 VD_PLL, 22 XIN "VSS_1", 23 XOUT "VSS_1", 24 VS_PLL "VSS_1", 25 VD18_O "VSS_1", 26 VD33_I "VSS_1", 27 REXT "VSS_1", 28 VD18_I "VSS_1", 29 DM_I, 30 DP_I, 31 VD33_I, 32 DM5, 33 DP5, 34 DM6 "VSS_1", 35 DP6 "VSS_1", 36 VD33_I "VSS_1", 37 DM7 "VSS_1", 38 DP7 "VSS_1", 39 VSS "VSS_1", 40 XRSTJ "VSS_1", 41 VBUSM, 42 VD33_I, 43 OVCJ5, 44 PWRJ, 45 OVCJ1, 46 LED7 "VSS_1", 47 LED6 "VSS_1", 48 LED5 "VSS_1"

## FM-B2020RGBA-HG
designator LED?  (value not drawn)
D - LED - 2020 - RGB; JLC Availability: Extended; LCSC Part #: C108793
footprint FM-B2020RGBA-HG (FM-B2020RGBA-HG LED)
pins: 1 R, 2 B, 3 A, 4 G

## FUSB302BMPX
designator U1  (value not drawn)
U - IC - USB PD PHY; JLC Availability: Extended; LCSC Part #: C442699
footprint QFN-14-P0.5MM (Quad Flat No Lead, Plastic; 14 Terminals; Body 2.5 x 2.5 mm; Pitch 0.5 mm)
pins: 0 GND, 1 CC2, 2 VBUS, 3 VDD, 4 VDD, 5 ~{INT}, 6 SCL, 7 SDA, 8 GND, 9 GND, 10 CC1, 11 CC1, 12 VCONN, 13 VCONN, 14 CC2

## GD32F103CBT6
designator U?
U - IC - MCU, 128 KB Flash, 20 KB Internal RAM, 37 I/Os, 48-pin LQFP, -40 to 85 degC; FLASH Size (Prog) (kB): 128; I/Os (High Current): 37; Internal RAM Size (kB): 20; Operating Frequency(F) (Processor speed) (MHz): 72; ComponentLink1Description: Manufacturer URL; ComponentLink1URL: http://www.st.com/web/en/home.html; ComponentLink2Description: Datasheet; ComponentLink2URL: http://www.st.com/st-web-ui/static/active/en/resource/technical/document/datasheet/CD00161566.pdf; ComponentLink3Description: Package Specification; ComponentLink3URL: http://www.st.com/st-web-ui/static/active/en/resource/technical/document/datasheet/DM00058181.pdf; JLC Availability: Extended; LCSC Part #: C77979
footprint QFP-48-P0.5MM (QFP; 48 Leads; Body 7 x 7 mm; Pitch 0.5 mm)
pins: 1 VBAT (power), 2 PC13-TAMPER-RTC (io) "PC13-TAMPER-RTC/PC13/TAMPER-RTC", 3 PC14-OSC32_IN (io) "PC14-OSC32_IN/PC14/OSC32_IN", 4 PC15-OSC32_OUT (io) "PC15-OSC32_OUT/PC15/OSC32_OUT", 5 PD0-OSC_IN (io) "PD0/OSC_IN", 6 PD1-OSC_OUT (io) "PD1/OSC_OUT", 7 NRST (io), 8 VSSA (power), 9 VDDA (power), 10 PA0-WKUP (io) "PA0-WKUP/PA0/WKUP/USART2_CTS/ADC12_IN0/TIM2_CH1_ETR", 11 PA1 (io) "PA1/USART2_RTS/ADC12_IN1/TIM2_CH2", 12 PA2 (io) "PA2/USART2_TX/ADC12_IN2/TIM2_CH3", 13 PA3 (io) "PA3/USART2_RX/ADC12_IN3/TIM2_CH4", 14 PA4 (io) "PA4/SPI1_NSS/USART2_CK/ADC12_IN4", 15 PA5 (io) "PA5/SPI1_SCK/ADC12_IN5", 16 PA6 (io) "PA6/SPI1_MISO/ADC12_IN6/TIM3_CH1/TIM1_BKIN", 17 PA7 (io) "PA7/SPI1_MOSI/ADC12_IN7/TIM3_CH2/TIM1_CH1N", 18 PB0 (io) "PB0/ADC12_IN8/TIM3_CH3/TIM1_CH2N", 19 PB1 (io) "PB1/ADC12_IN9/TIM3_CH4/TIM1_CH3N", 20 PB2 (io) "PB2/BOOT1", 21 PB10 (io) "PB10/I2C2_SCL/USART3_TX/TIM2_CH3", 22 PB11 (io) "PB11/I2C2_SDA/USART3_RX/TIM2_CH4", 23 VSS_1 (power), 24 VDD_1 (power), 25 PB12 (io) "PB12/SPI2_NSS/I2C2_SMBAl/USART3_CK/TIM1_BKIN", 26 PB13 (io) "PB13/SPI2_SCK/USART3_CTS/TIM1_CH1N", 27 PB14 (io) "PB14/SPI2_MISO/USART3_RTS/TIM1_CH2N", 28 PB15 (io) "PB15/SPI2_MOSI/TIM1_CH3N", 29 PA8 (io) "PA8/USART1_CK/TIM1_CH1/MCO", 30 PA9 (io) "PA9/USART1_TX/TIM1_CH2", 31 PA10 (io) "PA10/USART1_RX/TIM1_CH3", 32 PA11 (io) "PA11/USART1_CTS/CANRX/USBDM/TIM1_CH4", 33 PA12 (io) "PA12/USART1_RTS/CANTX/USBDP/TIM1_ETR", 34 PA13 (io) "PA13/JTMS/SWDIO", 35 VSS_2 (power), 36 VDD_2 (power), 37 PA14 (io) "PA14/JTCK/SWCLK", 38 PA15 (io) "PA15/JTDI/TIM2_CH1_ETR/SPI1_NSS", 39 PB3 (io) "PB3/JTDO/TIM2_CH2/TRACESWO/SPI1_SCK", 40 PB4 (io) "PB4/NJTRST/TIM3_CH1/SPI1_MISO", 41 PB5 (io) "PB5/I2C1_SMBAI/TIM3_CH2/SPI1_MOSI", 42 PB6 (io) "PB6/I2C1_SCL/TIM4_CH1/USART1_TX", 43 PB7 (io) "PB7/I2C1_SDA/TIM4_CH2/USART1_RX", 44 BOOT0 (in), 45 PB8 (io) "PB8/TIM4_CH3/I2C1_SCL/CANRX", 46 PB9 (io) "PB9/TIM4_CH4/I2C1_SDA/CANTX", 47 VSS_3 (power), 48 VDD_3 (power)

## GD32F103RGT6
designator U0
U - IC - MCU 32BIT 128KB FLASH 64LQFP; ComponentLink2Description: Datasheet; ComponentLink1URL: https://upverter.com/upn/revision/179c87d5c3d4f257/; ComponentLink1Description: Upverter; ComponentLink2URL: http://www.st.com/content/ccc/resource/technical/document/datasheet/33/d4/6f/1d/df/0b/4c/6d/CD00161566.pdf/files/CD00161566.pdf/jcr:content/translations/en.CD00161566.pdf; LCSC Part #: C78275; JLC Availability: Extended
footprint QFP-64-P0.5MM (64-Pin Plastic Quad Flat Pack (TQFP))
pins: 1 VBAT (power), 2 PC13-TAMPER-RTC, 3 PC14-OSC32 IN, 4 PC15-OSC32 OUT, 5 PD0-OSC IN, 6 PD1-OSC OUT, 7 ~{RST}, 8 PC0, 9 PC1, 10 PC2, 11 PC3, 12 VSSA (power), 13 VDDA (power), 14 PA0-WKUP, 15 PA1, 16 PA2, 17 PA3, 18 VSS 4 (power), 19 VDD 4 (power), 20 PA4, 21 PA5, 22 PA6, 23 PA7, 24 PC4, 25 PC5, 26 PB0, 27 PB1, 28 PB2, 29 PB10, 30 PB11, 31 VSS 1 (power), 32 VDD 1 (power), 33 PB12, 34 PB13, 35 PB14, 36 PB15, 37 PC6, 38 PC7, 39 PC8, 40 PC9, 41 PA8, 42 PA9, 43 PA10, 44 PA11, 45 PA12, 46 PA13, 47 VSS 2 (power), 48 VDD 2 (power), 49 PA14, 50 PA15, 51 PC10, 52 PC11, 53 PC12, 54 PD2, 55 PB3, 56 PB4, 57 PB5, 58 PB6, 59 PB7, 60 BOOT0, 61 PB8, 62 PB9, 63 VSS 3 (power), 64 VDD 3 (power)

## GD32F405RGT6
designator U0
U - IC - MCU 32BIT 1MB FLASH 64LQFP; ComponentLink2Description: Datasheet; ComponentLink1URL: https://upverter.com/upn/revision/179c87d5c3d4f257/; ComponentLink1Description: Upverter; ComponentLink2URL: http://www.st.com/content/ccc/resource/technical/document/datasheet/33/d4/6f/1d/df/0b/4c/6d/CD00161566.pdf/files/CD00161566.pdf/jcr:content/translations/en.CD00161566.pdf; LCSC Part #: C99031; JLC Availability: Extended
footprint QFP-64-P0.5MM (64-Pin Plastic Quad Flat Pack (TQFP))
pins: 1 VBAT (power), 2 PC13-TAMPER-RTC, 3 PC14-OSC32 IN, 4 PC15-OSC32 OUT, 5 PH0-OSC IN, 6 PH1-OSC OUT, 7 ~{RST}, 8 PC0, 9 PC1, 10 PC2, 11 PC3, 12 VSSA (power), 13 VDDA (power), 14 PA0-WKUP, 15 PA1, 16 PA2, 17 PA3, 18 VSS (power), 19 VDD (power), 20 PA4, 21 PA5, 22 PA6, 23 PA7, 24 PC4, 25 PC5, 26 PB0, 27 PB1, 28 PB2, 29 PB10, 30 PB11, 31 VCAP_1 (power), 32 VDD (power), 33 PB12, 34 PB13, 35 PB14, 36 PB15, 37 PC6, 38 PC7, 39 PC8, 40 PC9, 41 PA8, 42 PA9, 43 PA10, 44 PA11, 45 PA12, 46 PA13, 47 VCAP_2 (power), 48 VDD (power), 49 PA14, 50 PA15, 51 PC10, 52 PC11, 53 PC12, 54 PD2, 55 PB3, 56 PB4, 57 PB5, 58 PB6, 59 PB7, 60 BOOT0, 61 PB8, 62 PB9, 63 VSS (power), 64 VDD (power)

## IPD034N06N3G
designator Q?
Q - TRANSISTOR - MOSFET (N) - 60V - 100A; LCSC Part #: C94897; JLC Availability: Extended
footprint TO-252AA (DPAK)
pins: 1 G, 2 D, 3 S

## IR2010STRPBF
designator U?
U - IC - GATE DRIVER, Half Bridge, Isolated; LCSC Part #: C114890; JLC Availability: Extended
footprint SOIC-16-P1.27-W7.5
pins: 1 LO, 2 COM, 3 VCC, 6 VS, 7 VB, 8 HO, 11 VDD, 12 HIN, 13 SD, 14 LIN, 15 VSS

## IR21814STRPBF
designator U1
U - IC - GATE DRIVER, Half Bridge, Isolated; LCSC Part #: C371545; JLC Availability: Extended
footprint SOIC-14-P1.27-W3.5
pins: 1 HIN, 2 LIN, 3 VSS, 5 COM, 6 LO, 7 VCC, 11 VS, 12 HO, 13 VB

## IRF9540NSTRLPBF
designator Q?
Q - TRANSISTOR - MOSFET (N) - 100V - 23A - 0.117R; JLC Availability: Extended; LCSC Part #: C33903
footprint TO-263-3 (D2PAK)
pins: 1 G, 2 S, 3 D

## Keystone 1048
designator J*
J - JACK - SMT Battery Holder 18650X2 Cells
footprint Keystone 1048 (SMT Battery Holder 18650X2 Cells)
pins: 1, 2 1, 3, 4
text: +

## KH-SMA-K513-G_1
designator J?
J - JACK - RF SMA - Right - THT; LCSC Part #: C411575; JLC Availability: None
footprint SMA_THT_HORIZONTAL (SMA Through Hole Connector Right Angle)
pins: 0 GND1 (power), 0 GND2 (power), 0 GND3 (power), 0 GND4 (power), 1 ANT

## KS18650X2-SMT
designator J*
J - JACK - SMT Battery Holder 18650X2 Cells
footprint KS18650X2-SMT (SMT Battery Holder 18650X2 Cells)
pins: 1, 2 1, 3, 4
text: +

## KT-0603R
designator D?  (value not drawn)
D - LED - 0603 - Red; LCSC Part #: C2286; JLC Availability: Basic
footprint D_0603 (Chip Diode; Body 1.6 x 0.8 mm (LxW typ))
pins: 1 K, 2 A

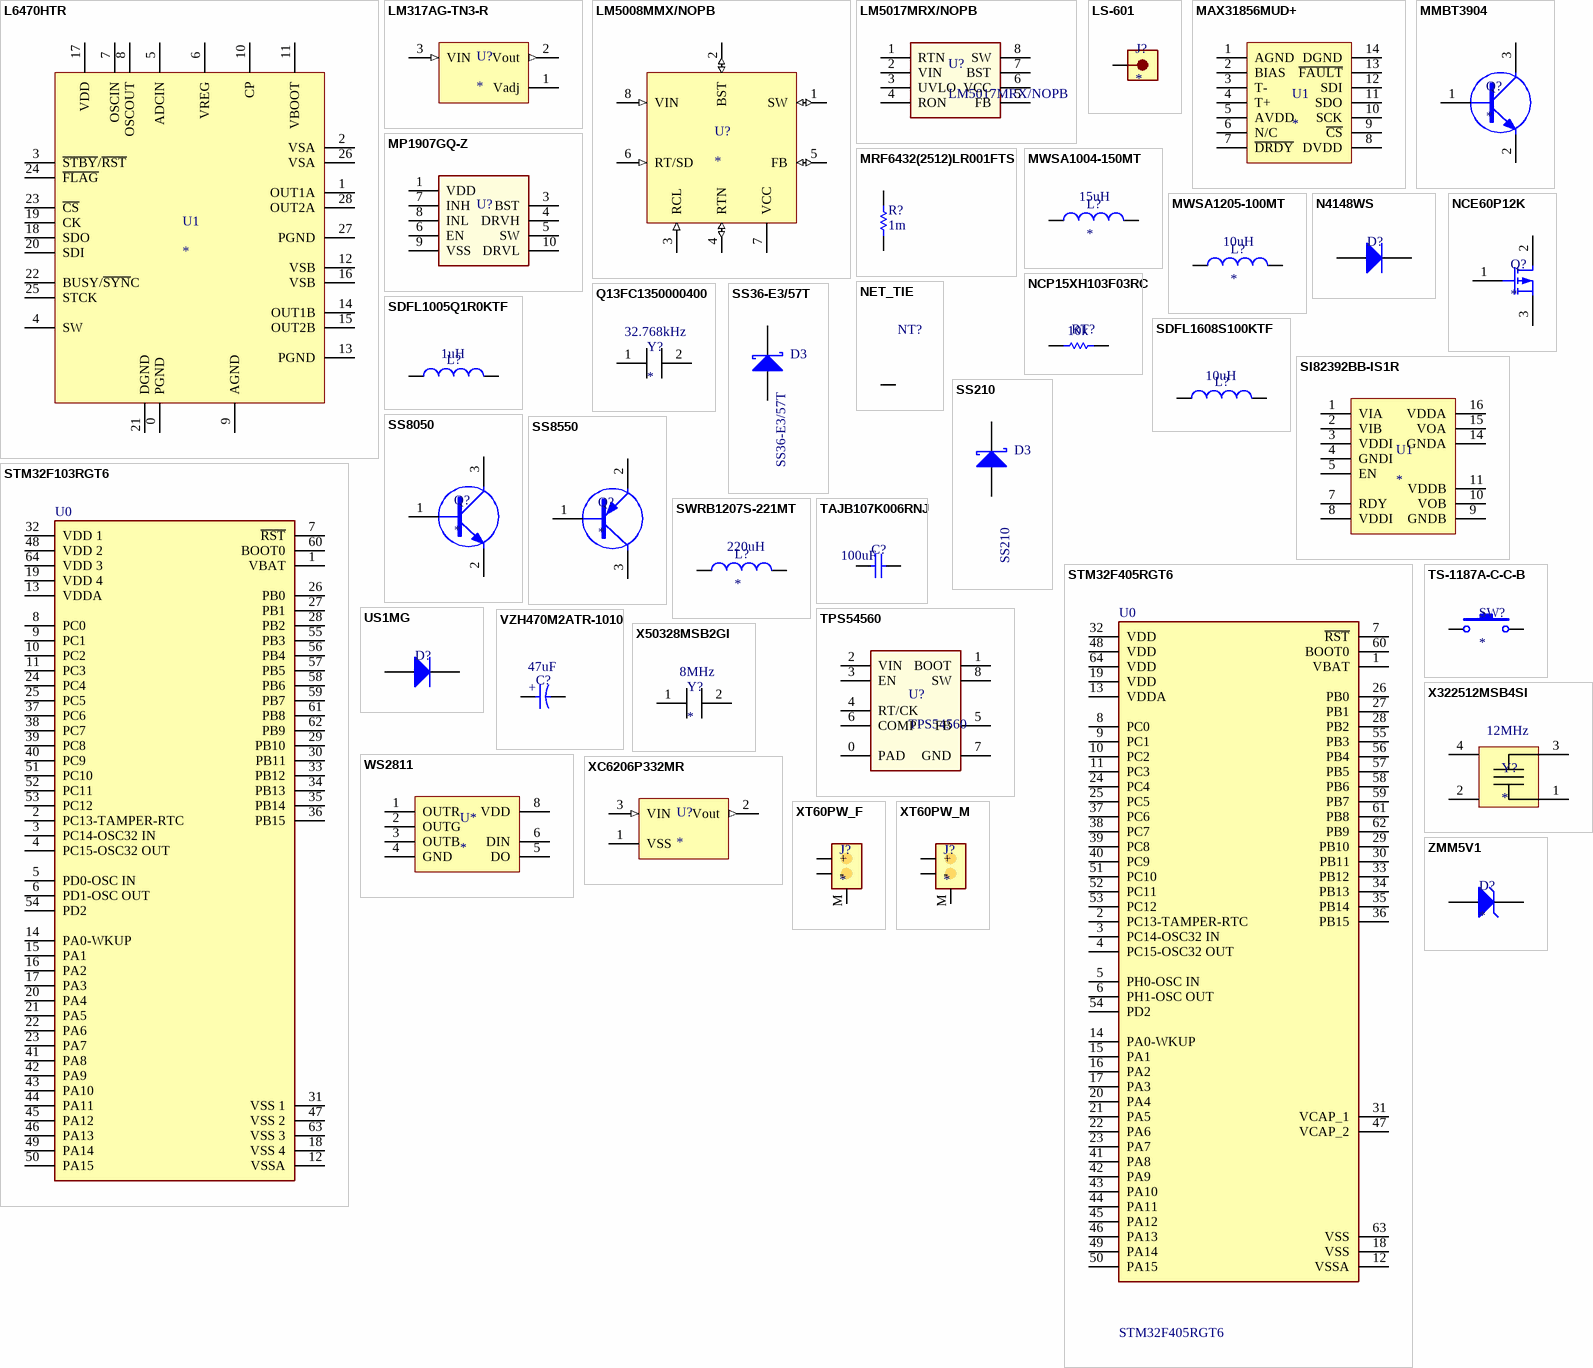
[diagram p3: symbols L6470HTR to ZMM5V1]

## L6470HTR
designator U1
U - IC - Motor Driver - Stepper; JLC Availability: Extended; LCSC Part #: C182381
footprint TSSOP-28-EP-P0.65MM-W4.4MM (Shrink Small Outline; 28 Leads)
pins: 0 PGND, 1 OUT1A, 2 VSA, 3 ~{STBY}/~{RST}, 4 SW, 5 ADCIN, 6 VREG, 7 OSCIN, 8 OSCOUT, 9 AGND, 10 CP, 11 VBOOT, 12 VSB, 13 PGND, 14 OUT1B, 15 OUT2B, 16 VSB, 17 VDD, 18 SDO, 19 CK, 20 SDI, 21 DGND, 22 BUSY/~{SYN}C, 23 ~{CS}, 24 ~{FLAG}, 25 STCK, 26 VSA, 27 PGND, 28 OUT2A

## LM317AG-TN3-R
designator U?
U - IC - ADJUSTABLE LDO; VOut: ADJ; LCSC Part #: C75510; JLC Availability: Basic
footprint TO-252AA (DPAK)
pins: 1 Vadj (power), 2 Vout (out), 3 VIN (in)

## LM5008MMX/NOPB
designator U?
U - IC - BUCK CONVERTER, ADJUSTABLE, 95V, 350mA; MP: LM5008MMX/NOPB; Package: None; Price: None; Value: *; Availability: Unavailable
footprint SOP65P490X110-8N
pins: 1 SW (io), 2 BST (io), 3 RCL (in), 4 RTN (io), 5 FB (io), 6 RT/SD (in), 7 VCC (power), 8 VIN (in)

## LM5017MRX/NOPB
designator U?
U - IC - BUCK CONVERTER, ADJUSTABLE, 100V; ComponentLink1Description: Manufacturer URL; ComponentLink1URL: http://www.st.com/web/en/home.html; ComponentLink2Description: Datasheet; ComponentLink2URL: http://www.st.com/st-web-ui/static/active/en/resource/technical/document/datasheet/CD00161566.pdf; ComponentLink3Description: Package Specification; ComponentLink3URL: http://www.st.com/st-web-ui/static/active/en/resource/technical/document/datasheet/DM00058181.pdf; JLC Availability: Extended; LCSC Part #: C34355
footprint SOIC-8-P1.27-W3.5
pins: 1 RTN, 2 VIN, 3 UVLO, 4 RON, 5 FB, 6 VCC, 7 BST, 8 SW

## LS-601
designator J?
J - JACK - FUSEHOLDER - 6X30 - THT; LCSC Part #: C182321; JLC Availability: Extended
footprint LS-601 (FUSE HOLDER)
pins: 1

## MAX31856MUD+
designator U1
U - IC - Sensor Interface Precision Thermocouple to Digital Converter with Linearization; JLC Availability: Extended; LCSC Part #: C116632
footprint TSSOP-14-P0.65MM-W4.4MM (Shrink Small Outline, TSSOP; 14 Leads; Body Width 4.4 mm; Pitch 0.65 mm)
pins: 1 AGND, 2 BIAS, 3 T-, 4 T+, 5 AVDD, 6 N/C, 7 ~{DRDY}, 8 DVDD, 9 ~{CS}, 10 SCK, 11 SDO, 12 SDI, 13 ~{FAULT}, 14 DGND

## MMBT3904
designator Q?
Q - TRANSISTOR - BJT - NPN - 40V 200mA; JLC Availability: Basic; LCSC Part #: C20526
footprint TO-236AB (SOT-23-3 Leads; Body 3.1 x 3 mm, inc. leads (LxW max))
pins: 1 B, 2 E, 3 C

## MP1907GQ-Z
designator U?
U - IC - GATE DRIVER - Half Bridge; ComponentLink1Description: Manufacturer URL; ComponentLink1URL: http://www.st.com/web/en/home.html; ComponentLink2Description: Datasheet; ComponentLink2URL: http://www.st.com/st-web-ui/static/active/en/resource/technical/document/datasheet/CD00161566.pdf; ComponentLink3Description: Package Specification; ComponentLink3URL: http://www.st.com/st-web-ui/static/active/en/resource/technical/document/datasheet/DM00058181.pdf; JLC Availability: Extended; LCSC Part #: C380794
footprint DFN-10-P0.5MM-EP (Quad Flat No Lead, Plastic; 10 Terminals; Body 3x3 mm; Pitch 0.5 mm)
pins: 1 VDD "VSS", 3 BST, 4 DRVH, 5 SW, 6 EN, 7 INH "VSS_3", 8 INL, 9 VSS, 10 DRVL

## MRF6432(2512)LR001FTS
designator R?, comment 1m
R - RESISTOR - SMD - 0.001R - 1% - 2512 - 2W; ComponentLink1URL: http://riedon.com/media/pdf/CSR.pdf; ComponentLink1Description: http://riedon.com/media/pdf/CSR.pdf; LCSC Part #: C76233; Power: 2W; JLC Availability: Extended
footprint R_2512 (VISHAY SHUNT RESISTOR)
pins: 1, 2

## MWSA1004-150MT
designator L?  value 15uH
L - INDUCTOR - 15uH - 6.25A - 12.5mm; Isat: 6.25A; LCSC Part #: C151872; JLC Availability: Extended
footprint SRR1260 (High Current Inductors)
pins: 1, 2

## MWSA1205-100MT
designator L?  value 10uH
L - INDUCTOR - 10uH - 9A - 12.5mm; Isat: 9A; LCSC Part #: C143971; JLC Availability: Extended
footprint SRR1260 (High Current Inductors)
pins: 1, 2

## N4148WS
designator D?  (value not drawn)
D - DIODE - FAST TRR - 100V - 150mA - 4ns; LCSC Part #: C2128; JLC Availability: Basic; PIV: 100V; If: 150mA; Trr: 4ns
footprint SOD-323 (SOD-323/SC-76; 2 Leads; Body 1.7 x 1.3 mm, (LxW))
pins: 1 K, 2 A

## NCE60P12K
designator Q?
Q - TRANSISTOR - MOSFET (P) - 60V - 12A - 0.1R; LCSC Part #: C326372; JLC Availability: Extended
footprint TO-252AA (DPAK)
pins: 1 G, 2 D, 3 S

## NCP15XH103F03RC
designator RT?  value 10k  (hidden comment: *)
RT - NTC THERMISTOR - 10k - 1% - 0402; Value2: 3380k; LCSC Part #: C77131; JLC Availability: Extended
footprint R_0402 (Body 1.0 x 0.5 mm (LxW typ))
pins: 1, 2

## NET_TIE
designator NT?, comment 0  (value not drawn)
R - Net Tie
footprint NET_TIE (Body 1.0 x 0.5 mm (LxW typ))
pins: 1, 2

## Q13FC1350000400
designator Y?  value 32.768kHz
Y - RESONATOR - 32.768KHZ - ±20PPM - SMD 3215; JLC Availability: Basic; LCSC Part #: C32346
footprint SMD-3215 (Footprint not found)
pins: 1, 2

## SDFL1005Q1R0KTF
designator L?  value 1uH  (hidden comment: *)
L - INDUCTOR - 1uH - 0402; JLC Availability: Extended; LCSC Part #: SDFL1005Q1R0KTF
footprint L_0402 (Chip Inductor, Body 1.1 x 0.5 mm (LxW typ))
pins: 1, 2

## SDFL1608S100KTF
designator L?  value 10uH  (hidden comment: *)
L - INDUCTOR - 10uH - 0603; JLC Availability: Basic; LCSC Part #: C1035
footprint L_0603
pins: 1, 2

## SI82392BB-IS1R
designator U1
U - IC - GATE DRIVER - Half Bridge - Isolated; LCSC Part #: C461849; JLC Availability: Basic
footprint SOIC-16-P1.27-W3.5
pins: 1 VIA, 2 VIB, 3 VDDI, 4 GNDI, 5 EN, 7 RDY, 8 VDDI, 9 GNDB, 10 VOB, 11 VDDB, 14 GNDA, 15 VOA, 16 VDDA

## SS36-E3/57T
designator D3
D - DIODE - SCHOTTKY - 60V - 3A; Vrrm: 60; If: 3A; LCSC Part #: C35722; JLC Availability: Extended
footprint DO-214AB (SMC Diode)
pins: 1 K, 2 A

## SS210
designator D3
D - DIODE - SCHOTTKY - 100V - 2A; Vrrm: 100; If: 2A; LCSC Part #: C14996; JLC Availability: Extended
footprint DO-214AC (SMA Diode)
pins: 1 K, 2 A

## SS8050
designator Q?
Q - TRANSISTOR - BJT - NPN - 25V 1.5A; JLC Availability: Basic; LCSC Part #: C2150
footprint TO-236AB (SOT-23-3 Leads; Body 3.1 x 3 mm, inc. leads (LxW max))
pins: 1 B, 2 E, 3 C

## SS8550
designator Q?
Q - TRANSISTOR - BJT - PNP - 25V 1.5A; JLC Availability: Basic; LCSC Part #: C8542
footprint TO-236AB (SOT-23-3 Leads; Body 3.1 x 3 mm, inc. leads (LxW max))
pins: 1 B, 2 E, 3 C

## STM32F103RGT6
designator U0  (value not drawn)
U - IC - MCU 32BIT 128KB FLASH 64LQFP; Part Number: STM32F103RBT6; ComponentLink2Description: Datasheet; ComponentLink1URL: https://upverter.com/upn/revision/179c87d5c3d4f257/; ComponentLink1Description: Upverter; ComponentLink2URL: http://www.st.com/content/ccc/resource/technical/document/datasheet/33/d4/6f/1d/df/0b/4c/6d/CD00161566.pdf/files/CD00161566.pdf/jcr:content/translations/en.CD00161566.pdf; LCSC Part #: C8735; JLC Availability: Extended
footprint QFP-64-P0.5MM (64-Pin Plastic Quad Flat Pack (TQFP))
pins: 1 VBAT (power), 2 PC13-TAMPER-RTC, 3 PC14-OSC32 IN, 4 PC15-OSC32 OUT, 5 PD0-OSC IN, 6 PD1-OSC OUT, 7 ~{RST}, 8 PC0, 9 PC1, 10 PC2, 11 PC3, 12 VSSA (power), 13 VDDA (power), 14 PA0-WKUP, 15 PA1, 16 PA2, 17 PA3, 18 VSS 4 (power), 19 VDD 4 (power), 20 PA4, 21 PA5, 22 PA6, 23 PA7, 24 PC4, 25 PC5, 26 PB0, 27 PB1, 28 PB2, 29 PB10, 30 PB11, 31 VSS 1 (power), 32 VDD 1 (power), 33 PB12, 34 PB13, 35 PB14, 36 PB15, 37 PC6, 38 PC7, 39 PC8, 40 PC9, 41 PA8, 42 PA9, 43 PA10, 44 PA11, 45 PA12, 46 PA13, 47 VSS 2 (power), 48 VDD 2 (power), 49 PA14, 50 PA15, 51 PC10, 52 PC11, 53 PC12, 54 PD2, 55 PB3, 56 PB4, 57 PB5, 58 PB6, 59 PB7, 60 BOOT0, 61 PB8, 62 PB9, 63 VSS 3 (power), 64 VDD 3 (power)

## STM32F405RGT6
designator U0
U - IC - MCU 32BIT 1MB FLASH 64LQFP; ComponentLink2Description: Datasheet; ComponentLink1URL: https://upverter.com/upn/revision/179c87d5c3d4f257/; ComponentLink1Description: Upverter; ComponentLink2URL: http://www.st.com/content/ccc/resource/technical/document/datasheet/33/d4/6f/1d/df/0b/4c/6d/CD00161566.pdf/files/CD00161566.pdf/jcr:content/translations/en.CD00161566.pdf; LCSC Part #: C15742; JLC Availability: Extended
footprint QFP-64-P0.5MM (64-Pin Plastic Quad Flat Pack (TQFP))
pins: 1 VBAT (power), 2 PC13-TAMPER-RTC, 3 PC14-OSC32 IN, 4 PC15-OSC32 OUT, 5 PH0-OSC IN, 6 PH1-OSC OUT, 7 ~{RST}, 8 PC0, 9 PC1, 10 PC2, 11 PC3, 12 VSSA (power), 13 VDDA (power), 14 PA0-WKUP, 15 PA1, 16 PA2, 17 PA3, 18 VSS (power), 19 VDD (power), 20 PA4, 21 PA5, 22 PA6, 23 PA7, 24 PC4, 25 PC5, 26 PB0, 27 PB1, 28 PB2, 29 PB10, 30 PB11, 31 VCAP_1 (power), 32 VDD (power), 33 PB12, 34 PB13, 35 PB14, 36 PB15, 37 PC6, 38 PC7, 39 PC8, 40 PC9, 41 PA8, 42 PA9, 43 PA10, 44 PA11, 45 PA12, 46 PA13, 47 VCAP_2 (power), 48 VDD (power), 49 PA14, 50 PA15, 51 PC10, 52 PC11, 53 PC12, 54 PD2, 55 PB3, 56 PB4, 57 PB5, 58 PB6, 59 PB7, 60 BOOT0, 61 PB8, 62 PB9, 63 VSS (power), 64 VDD (power)

## SWRB1207S-221MT
designator L?  value 220uH
L - INDUCTOR - 220uH - 1.6A - 12.5mm; Isat: 1.6A; LCSC Part #: C169380; JLC Availability: Extended
footprint SRR1260 (High Current Inductors)
pins: 1, 2

## TAJB107K006RNJ
designator C?  value 100uF  (hidden comment: *)
C - CAPACITOR - MLCC - 100uF - 6.3V - 0402; WVDC: 6.3; LCSC Part #: C16133; JLC Availability: Basic
footprint C_1210 (Chip Capacitor; Body 3.2 x 2.5 mm (LxW typ))
pins: 1, 2

## TPS54560
designator U?
U - IC - BUCK CONVERTER, ADJUSTABLE, 65V; ComponentLink1Description: Manufacturer URL; ComponentLink1URL: http://www.st.com/web/en/home.html; ComponentLink2Description: Datasheet; ComponentLink2URL: http://www.st.com/st-web-ui/static/active/en/resource/technical/document/datasheet/CD00161566.pdf; ComponentLink3Description: Package Specification; ComponentLink3URL: http://www.st.com/st-web-ui/static/active/en/resource/technical/document/datasheet/DM00058181.pdf; JLC Availability: Extended; LCSC Part #: C31966
footprint SOIC-8-P1.27-W3.5-EP
pins: 0 PAD, 1 BOOT, 2 VIN, 3 EN, 4 RT/CK, 5 FB, 6 COMP, 7 GND, 8 SW

## TS-1187A-C-C-B
designator SW?
SW - SWITCH - SPST - NO - Top Actuated Surface Mount; JLC Availability: Extended; LCSC Part #: C318889
footprint TS-1187A-C-C-B (Tactile Switch SPST-NO Top Actuated Surface Mount)
pins: 1, 2

## US1MG
designator D?  (value not drawn)
D - DIODE - FAST TRR - 1KV - 1A; LCSC Part #: C412437; JLC Availability: Basic
footprint DO-214AC (SMA Diode)
pins: 1 K, 2 A

## VZH470M2ATR-1010
designator C?  value 47uF  (hidden comment: *)
C - CAPACITOR - ELECTROLYTIC - 47uF - 100V; WVDC: 100; ESR: 40mOhm; JLC Availability: Extended; LCSC Part #: C164068
footprint C_CAN_1010 (SMD-ECAP-10x10)
pins: 1, 2
text: +

## WS2811
designator U*
U - IC - Addressable PWM Driver; JLC Availability: Extended; LCSC Part Number: C114581
footprint SOIC-8-P1.27-W3.5
pins: 1 OUTR, 2 OUTG, 3 OUTB, 4 GND, 5 DO, 6 DIN, 8 VDD

## X50328MSB2GI
designator Y?  value 8MHz
Y - RESONATOR - 8MHZ ±10PPM - SMD-5032; LCSC Part #: C115962; Availability: Basic
footprint YSX530GA
pins: 1, 2

## X322512MSB4SI
designator Y?  value 12MHz
Y - RESONATOR - 12MHZ ±10PPM; LCSC Part #: C9002; JLC Availability: Basic
footprint X322512MSB4SI (Footprint not found)
pins: 1, 2 GND, 3, 4 GND

## XC6206P332MR
designator U?
U - IC - LDO 3.3V 200mA; VOut: 3.3; LCSC Part #: C5446; JLC Availability: Basic
footprint TO-236AB (SOT-23-3 Leads; Body 3.1 x 3 mm, inc. leads (LxW max))
pins: 1 VSS (power), 2 Vout (out), 3 VIN (in)

## XT60PW_F
designator J?
J - JACK - POWER - XT60 - RIGHT - FEMALE; LCSC Part #: X; JLC Availability: None
footprint XT60PW_F (XT 60 Female Right Angle)
pins: M, MINUS -, PLUS +

## XT60PW_M
designator J?
J - JACK - POWER - XT60 - RIGHT - MALE; LCSC Part #: X; JLC Availability: None
footprint XT60PW_M (XT 60 Male Right Angle)
pins: M, MINUS -, PLUS +

## ZMM5V1
designator D?
D - DIODE - ZENER - 5.1V - 500mW; LCSC Part #: C8061; JLC Availability: Extended
footprint DO-213AA (2 Leads)
pins: 1 K, 2 A